# Altium footprint library Lumberg-Connectors.PcbLib: 2 footprints
Each footprint in its own frame and in the unit in brackets; x right, y up, seen from the top. Pads: shape width x height; smd on the part's side, far side on the other; paste and mask are expansions set on the pad; w line width, h text height; cw(c..) or ccw(c..) is an arc to the next point about the centre after c.
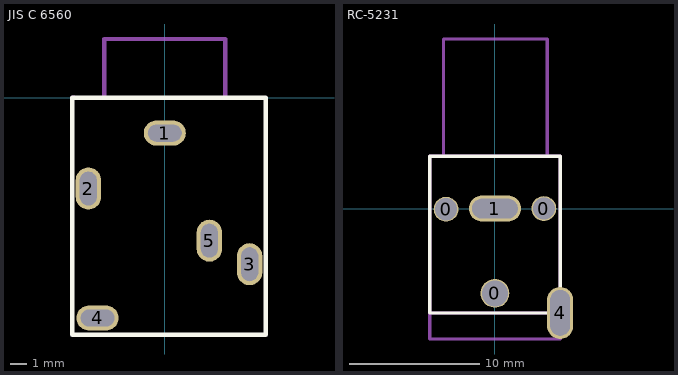
[diagram p0: the footprints below, top view; thin cyan lines are the x and y axes]

## JIS C 6560 [mm] "1503 09/17 Jack"
height 6
pads (5):
  oval 2.5x1.5 hole 1 slot 2 at 0 deg: 1(0,-2.1) 4(-4,-13.1)
  oval 1.5x2.5 hole 1 slot 2 at 90 deg: 2(-4.55,-5.4) 3(5.05,-9.9) 5(2.65,-8.5)
Top Overlay:
  lines w0.254: -5.5,0 -5.5,-14.1 6,-14.1 6,0 0,0 -5.4,0
Mechanical 1:
  lines w0.254: -5.5,0 -5.4,0 ; -3.6,0 -3.6,3.5 0,3.5 3.6,3.5 3.6,0

## RC-5231 [mm] "JEITA RC-5231 RCA connector"
height 13
pads (5):
  round 1.9 hole 1.7 mask+0.102: 0(-3.75,-0.05) 0(3.75,0)
  round 2.2 hole 2 mask+0.102: 0(0,-6.5)
  oval 4x2 hole 1.5 slot 3.5 at 0 deg: 1(0,0)
  oval 2x4 hole 1.5 slot 3.5 at 90 deg: 4(5,-8)
Top Overlay:
  lines w0.254: -5,-8 5,-8 5,4 -5,4 -5,0 -5,-8
Mechanical 1:
  lines w0.254: -3.95,4 -3.95,13 4,13 4,4 ; -5,-8 -5,-10 5,-10 5,-8 ; -5,-8 -5,0 -5,4 5,4 5,-8 ; -5,-8 5,-8